# Altium footprint library Connector_Wire.PcbLib: 290 footprints (part 2 of 19)
Each footprint in its own frame and in the unit in brackets; x right, y up, seen from the top. Pads: shape width x height; smd on the part's side, far side on the other; paste and mask are expansions set on the pad; w line width, h text height; cw(c..) or ccw(c..) is an arc to the next point about the centre after c.
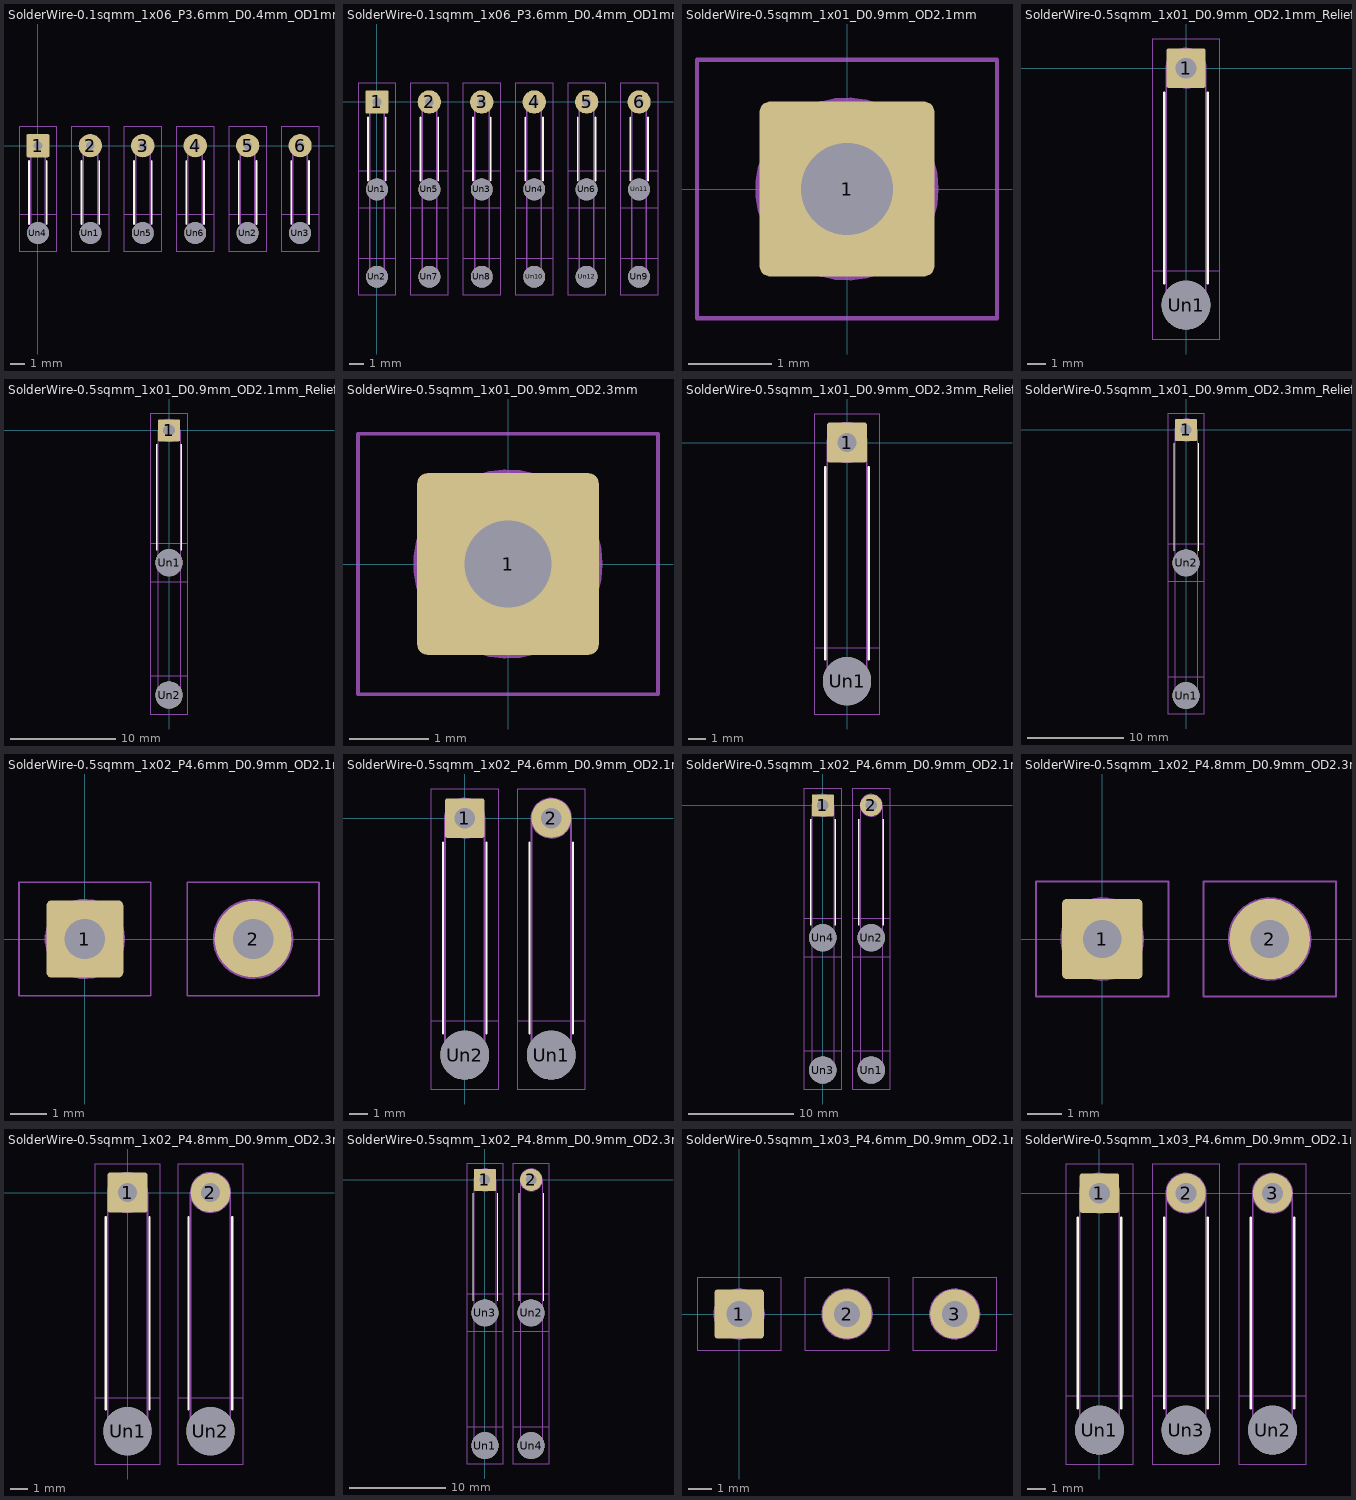
[diagram p1: the footprints below, top view; thin cyan lines are the x and y axes]

## SolderWire-0.1sqmm_1x06_P3.6mm_D0.4mm_OD1mm_Relief [mm]
pads (12):
  rrect16% 1.6x1.6 hole 0.6: 1(0,0)
  round 1.6 hole 0.6: 2(3.6,0) 3(7.2,0) 4(10.8,0) 5(14.4,0) 6(18,0)
  round 1.5 hole 1.5: Un1(3.6,-6) Un2(14.4,-6) Un3(18,-6) Un4(0,-6) Un5(7.2,-6) Un6(10.8,-6)
F.SilkS:
  lines w0.12: -0.61,-5.39 -0.61,-1.06 ; 0.61,-5.39 0.61,-1.06 ; 2.99,-5.39 2.99,-1.06 ; 4.21,-5.39 4.21,-1.06 ; 6.59,-5.39 6.59,-1.06 ; 7.81,-5.39 7.81,-1.06 ; 10.19,-5.39 10.19,-1.06 ; 11.41,-5.39 11.41,-1.06 ; 13.79,-5.39 13.79,-1.06 ; 15.01,-5.39 15.01,-1.06 ; 17.39,-5.39 17.39,-1.06 ; 18.61,-5.39 18.61,-1.06
B.CrtYd:
  lines w0.05: -1.3,-7.25 1.3,-7.25 1.3,-4.75 -1.3,-4.75 -1.3,-7.25 ; 2.3,-7.25 2.3,-4.75 4.9,-4.75 4.9,-7.25 2.3,-7.25 ; 5.9,-7.25 8.5,-7.25 8.5,-4.75 5.9,-4.75 5.9,-7.25 ; 9.5,-7.25 9.5,-4.75 12.1,-4.75 12.1,-7.25 9.5,-7.25 ; 13.1,-7.25 15.7,-7.25 15.7,-4.75 13.1,-4.75 13.1,-7.25 ; 16.7,-7.25 19.3,-7.25 19.3,-4.75 16.7,-4.75 16.7,-7.25
F.CrtYd:
  lines w0.05: -1.3,-7.25 1.3,-7.25 1.3,1.3 -1.3,1.3 -1.3,-7.25 ; 2.3,-7.25 4.9,-7.25 4.9,1.3 2.3,1.3 2.3,-7.25 ; 5.9,-7.25 5.9,1.3 8.5,1.3 8.5,-7.25 5.9,-7.25 ; 9.5,-7.25 9.5,1.3 12.1,1.3 12.1,-7.25 9.5,-7.25 ; 13.1,-7.25 15.7,-7.25 15.7,1.3 13.1,1.3 13.1,-7.25 ; 16.7,-7.25 19.3,-7.25 19.3,1.3 16.7,1.3 16.7,-7.25
F.Fab:
  circle w0.1: c0,-6 r0.5
  circle w0.1: c18,-6 r0.5
  circle w0.1: c10.8,0 r0.5
  circle w0.1: c7.2,0 r0.5
  circle w0.1: c3.6,-6 r0.5
  circle w0.1: c0,0 r0.5
  circle w0.1: c3.6,0 r0.5
  circle w0.1: c7.2,-6 r0.5
  circle w0.1: c18,0 r0.5
  circle w0.1: c14.4,-6 r0.5
  circle w0.1: c14.4,0 r0.5
  circle w0.1: c10.8,-6 r0.5
  lines w0.1: -0.5,-6 -0.5,0 ; 0.5,-6 0.5,0 ; 3.1,-6 3.1,0 ; 4.1,-6 4.1,0 ; 6.7,-6 6.7,0 ; 7.7,-6 7.7,0 ; 10.3,-6 10.3,0 ; 11.3,-6 11.3,0 ; 13.9,-6 13.9,0 ; 14.9,-6 14.9,0 ; 17.5,-6 17.5,0 ; 18.5,-6 18.5,0
  text "'.Designator'" at 9.672,-6.237 h0.8

## SolderWire-0.1sqmm_1x06_P3.6mm_D0.4mm_OD1mm_Relief2x [mm]
pads (18):
  rrect16% 1.6x1.6 hole 0.6: 1(0,0)
  round 1.6 hole 0.6: 2(3.6,0) 3(7.2,0) 4(10.8,0) 5(14.4,0) 6(18,0)
  round 1.5 hole 1.5: Un1(0,-6) Un2(0,-12) Un3(7.2,-6) Un4(10.8,-6) Un5(3.6,-6) Un6(14.4,-6) Un7(3.6,-12) Un8(7.2,-12) Un9(18,-12) Un10(10.8,-12) Un11(18,-6) Un12(14.4,-12)
F.SilkS:
  lines w0.12: -0.61,-5.39 -0.61,-1.06 ; 0.61,-5.39 0.61,-1.06 ; 2.99,-5.39 2.99,-1.06 ; 4.21,-5.39 4.21,-1.06 ; 6.59,-5.39 6.59,-1.06 ; 7.81,-5.39 7.81,-1.06 ; 10.19,-5.39 10.19,-1.06 ; 11.41,-5.39 11.41,-1.06 ; 13.79,-5.39 13.79,-1.06 ; 15.01,-5.39 15.01,-1.06 ; 17.39,-5.39 17.39,-1.06 ; 18.61,-5.39 18.61,-1.06
B.SilkS:
  lines w0.12: -0.61,-11.39 -0.61,-6.61 ; 0.61,-11.39 0.61,-6.61 ; 2.99,-11.39 2.99,-6.61 ; 4.21,-11.39 4.21,-6.61 ; 6.59,-11.39 6.59,-6.61 ; 7.81,-11.39 7.81,-6.61 ; 10.19,-11.39 10.19,-6.61 ; 11.41,-11.39 11.41,-6.61 ; 13.79,-11.39 13.79,-6.61 ; 15.01,-11.39 15.01,-6.61 ; 17.39,-11.39 17.39,-6.61 ; 18.61,-11.39 18.61,-6.61
B.CrtYd:
  lines w0.05: -1.3,-13.25 1.3,-13.25 1.3,-4.75 -1.3,-4.75 -1.3,-13.25 ; 2.3,-13.25 4.9,-13.25 4.9,-4.75 2.3,-4.75 2.3,-13.25 ; 5.9,-13.25 8.5,-13.25 8.5,-4.75 5.9,-4.75 5.9,-13.25 ; 9.5,-13.25 12.1,-13.25 12.1,-4.75 9.5,-4.75 9.5,-13.25 ; 13.1,-13.25 15.7,-13.25 15.7,-4.75 13.1,-4.75 13.1,-13.25 ; 16.7,-13.25 16.7,-4.75 19.3,-4.75 19.3,-13.25 16.7,-13.25
F.CrtYd:
  lines w0.05: -1.3,-13.25 -1.3,-10.75 1.3,-10.75 1.3,-13.25 -1.3,-13.25 ; -1.3,-7.25 -1.3,1.3 1.3,1.3 1.3,-7.25 -1.3,-7.25 ; 2.3,-13.25 4.9,-13.25 4.9,-10.75 2.3,-10.75 2.3,-13.25 ; 2.3,-7.25 2.3,1.3 4.9,1.3 4.9,-7.25 2.3,-7.25 ; 5.9,-13.25 8.5,-13.25 8.5,-10.75 5.9,-10.75 5.9,-13.25 ; 5.9,-7.25 5.9,1.3 8.5,1.3 8.5,-7.25 5.9,-7.25 ; 9.5,-13.25 9.5,-10.75 12.1,-10.75 12.1,-13.25 9.5,-13.25 ; 9.5,-7.25 9.5,1.3 12.1,1.3 12.1,-7.25 9.5,-7.25 ; 13.1,-13.25 13.1,-10.75 15.7,-10.75 15.7,-13.25 13.1,-13.25 ; 13.1,-7.25 13.1,1.3 15.7,1.3 15.7,-7.25 13.1,-7.25 ; 16.7,-13.25 19.3,-13.25 19.3,-10.75 16.7,-10.75 16.7,-13.25 ; 16.7,-7.25 19.3,-7.25 19.3,1.3 16.7,1.3 16.7,-7.25
B.Fab:
  circle w0.1: c10.8,-12 r0.5
  circle w0.1: c0,-12 r0.5
  circle w0.1: c14.4,-6 r0.5
  circle w0.1: c0,-6 r0.5
  circle w0.1: c10.8,-6 r0.5
  circle w0.1: c7.2,-12 r0.5
  circle w0.1: c3.6,-12 r0.5
  circle w0.1: c7.2,-6 r0.5
  circle w0.1: c18,-6 r0.5
  circle w0.1: c3.6,-6 r0.5
  circle w0.1: c14.4,-12 r0.5
  circle w0.1: c18,-12 r0.5
  lines w0.1: -0.5,-12 -0.5,-6 ; 0.5,-12 0.5,-6 ; 3.1,-12 3.1,-6 ; 4.1,-12 4.1,-6 ; 6.7,-12 6.7,-6 ; 7.7,-12 7.7,-6 ; 10.3,-12 10.3,-6 ; 11.3,-12 11.3,-6 ; 13.9,-12 13.9,-6 ; 14.9,-12 14.9,-6 ; 17.5,-12 17.5,-6 ; 18.5,-12 18.5,-6
F.Fab:
  circle w0.1: c14.4,-12 r0.5
  circle w0.1: c18,-6 r0.5
  circle w0.1: c10.8,0 r0.5
  circle w0.1: c18,-12 r0.5
  circle w0.1: c7.2,-6 r0.5
  circle w0.1: c14.4,-6 r0.5
  circle w0.1: c7.2,0 r0.5
  circle w0.1: c3.6,-6 r0.5
  circle w0.1: c3.6,-12 r0.5
  circle w0.1: c10.8,-6 r0.5
  circle w0.1: c18,0 r0.5
  circle w0.1: c0,-12 r0.5
  circle w0.1: c7.2,-12 r0.5
  circle w0.1: c14.4,0 r0.5
  circle w0.1: c0,-6 r0.5
  circle w0.1: c3.6,0 r0.5
  circle w0.1: c10.8,-12 r0.5
  circle w0.1: c0,0 r0.5
  lines w0.1: -0.5,-6 -0.5,0 ; 0.5,-6 0.5,0 ; 3.1,-6 3.1,0 ; 4.1,-6 4.1,0 ; 6.7,-6 6.7,0 ; 7.7,-6 7.7,0 ; 10.3,-6 10.3,0 ; 11.3,-6 11.3,0 ; 13.9,-6 13.9,0 ; 14.9,-6 14.9,0 ; 17.5,-6 17.5,0 ; 18.5,-6 18.5,0
  text "'.Designator'" at 9.672,-6.237 h0.8

## SolderWire-0.5sqmm_1x01_D0.9mm_OD2.1mm [mm]
pads (1):
  rrect12% 2.1x2.1 hole 1.1: 1(0,0)
F.CrtYd:
  lines w0.05: -1.8,-1.55 -1.8,1.55 1.8,1.55 1.8,-1.55 -1.8,-1.55
F.Fab:
  circle w0.1: c0,0 r1.05
  text "'.Designator'" at -2.106,-0.439 h0.52

## SolderWire-0.5sqmm_1x01_D0.9mm_OD2.1mm_Relief [mm]
pads (2):
  rrect12% 2.1x2.1 hole 1.1: 1(0,0)
  round 2.6 hole 2.6: Un1(0,-12.6)
F.SilkS:
  lines w0.12: -1.16,-11.44 -1.16,-1.31 ; 1.16,-11.44 1.16,-1.31
B.CrtYd:
  lines w0.05: -1.8,-14.4 -1.8,-10.8 1.8,-10.8 1.8,-14.4 -1.8,-14.4
F.CrtYd:
  lines w0.05: -1.8,-14.4 -1.8,1.55 1.8,1.55 1.8,-14.4 -1.8,-14.4
F.Fab:
  circle w0.1: c0,0 r1.05
  circle w0.1: c0,-12.6 r1.05
  lines w0.1: -1.05,-12.6 -1.05,0 ; 1.05,-12.6 1.05,0
  text "'.Designator'" at 0.84,-10.347 h1

## SolderWire-0.5sqmm_1x01_D0.9mm_OD2.1mm_Relief2x [mm]
pads (3):
  rrect12% 2.1x2.1 hole 1.1: 1(0,0)
  round 2.6 hole 2.6: Un1(0,-12.6) Un2(0,-25.2)
F.SilkS:
  lines w0.12: -1.16,-11.44 -1.16,-1.31 ; 1.16,-11.44 1.16,-1.31
B.SilkS:
  lines w0.12: -1.16,-24.04 -1.16,-13.76 ; 1.16,-24.04 1.16,-13.76
B.CrtYd:
  lines w0.05: -1.8,-27 -1.8,-10.8 1.8,-10.8 1.8,-27 -1.8,-27
F.CrtYd:
  lines w0.05: -1.8,-27 1.8,-27 1.8,-23.4 -1.8,-23.4 -1.8,-27 ; -1.8,-14.4 1.8,-14.4 1.8,1.55 -1.8,1.55 -1.8,-14.4
B.Fab:
  circle w0.1: c0,-12.6 r1.05
  circle w0.1: c0,-25.2 r1.05
  lines w0.1: -1.05,-25.2 -1.05,-12.6 ; 1.05,-25.2 1.05,-12.6
F.Fab:
  circle w0.1: c0,-12.6 r1.05
  circle w0.1: c0,0 r1.05
  circle w0.1: c0,-25.2 r1.05
  lines w0.1: -1.05,-12.6 -1.05,0 ; 1.05,-12.6 1.05,0
  text "'.Designator'" at 0.84,-10.347 h1

## SolderWire-0.5sqmm_1x01_D0.9mm_OD2.3mm [mm]
pads (1):
  rrect11% 2.3x2.3 hole 1.1: 1(0,0)
F.CrtYd:
  lines w0.05: -1.9,-1.65 1.9,-1.65 1.9,1.65 -1.9,1.65 -1.9,-1.65
F.Fab:
  circle w0.1: c0,0 r1.15
  text "'.Designator'" at -2.311,-0.483 h0.57

## SolderWire-0.5sqmm_1x01_D0.9mm_OD2.3mm_Relief [mm]
pads (2):
  rrect11% 2.3x2.3 hole 1.1: 1(0,0)
  round 2.8 hole 2.8: Un1(0,-13.8)
F.SilkS:
  lines w0.12: -1.26,-12.54 -1.26,-1.41 ; 1.26,-12.54 1.26,-1.41
B.CrtYd:
  lines w0.05: -1.9,-15.7 -1.9,-11.9 1.9,-11.9 1.9,-15.7 -1.9,-15.7
F.CrtYd:
  lines w0.05: -1.9,-15.7 1.9,-15.7 1.9,1.65 -1.9,1.65 -1.9,-15.7
F.Fab:
  circle w0.1: c0,0 r1.15
  circle w0.1: c0,-13.8 r1.15
  lines w0.1: -1.15,-13.8 -1.15,0 ; 1.15,-13.8 1.15,0
  text "'.Designator'" at 0.84,-10.947 h1

## SolderWire-0.5sqmm_1x01_D0.9mm_OD2.3mm_Relief2x [mm]
pads (3):
  rrect11% 2.3x2.3 hole 1.1: 1(0,0)
  round 2.8 hole 2.8: Un1(0,-27.6) Un2(0,-13.8)
F.SilkS:
  lines w0.12: -1.26,-12.54 -1.26,-1.41 ; 1.26,-12.54 1.26,-1.41
B.SilkS:
  lines w0.12: -1.26,-26.34 -1.26,-15.06 ; 1.26,-26.34 1.26,-15.06
B.CrtYd:
  lines w0.05: -1.9,-29.5 -1.9,-11.9 1.9,-11.9 1.9,-29.5 -1.9,-29.5
F.CrtYd:
  lines w0.05: -1.9,-29.5 -1.9,-25.7 1.9,-25.7 1.9,-29.5 -1.9,-29.5 ; -1.9,-15.7 1.9,-15.7 1.9,1.65 -1.9,1.65 -1.9,-15.7
B.Fab:
  circle w0.1: c0,-27.6 r1.15
  circle w0.1: c0,-13.8 r1.15
  lines w0.1: -1.15,-27.6 -1.15,-13.8 ; 1.15,-27.6 1.15,-13.8
F.Fab:
  circle w0.1: c0,-13.8 r1.15
  circle w0.1: c0,0 r1.15
  circle w0.1: c0,-27.6 r1.15
  lines w0.1: -1.15,-13.8 -1.15,0 ; 1.15,-13.8 1.15,0
  text "'.Designator'" at 0.84,-10.947 h1

## SolderWire-0.5sqmm_1x02_P4.6mm_D0.9mm_OD2.1mm [mm]
pads (2):
  rrect12% 2.1x2.1 hole 1.1: 1(0,0)
  round 2.1 hole 1.1: 2(4.6,0)
F.CrtYd:
  lines w0.05: -1.8,-1.55 -1.8,1.55 1.8,1.55 1.8,-1.55 -1.8,-1.55 ; 2.8,-1.55 2.8,1.55 6.4,1.55 6.4,-1.55 2.8,-1.55
F.Fab:
  circle w0.1: c4.6,0 r1.05
  circle w0.1: c0,0 r1.05
  text "'.Designator'" at 2.958,-3.159 h0.78

## SolderWire-0.5sqmm_1x02_P4.6mm_D0.9mm_OD2.1mm_Relief [mm]
pads (4):
  rrect12% 2.1x2.1 hole 1.1: 1(0,0)
  round 2.1 hole 1.1: 2(4.6,0)
  round 2.6 hole 2.6: Un1(4.6,-12.6) Un2(0,-12.6)
F.SilkS:
  lines w0.12: -1.16,-11.44 -1.16,-1.31 ; 1.16,-11.44 1.16,-1.31 ; 3.44,-11.44 3.44,-1.31 ; 5.76,-11.44 5.76,-1.31
B.CrtYd:
  lines w0.05: -1.8,-14.4 1.8,-14.4 1.8,-10.8 -1.8,-10.8 -1.8,-14.4 ; 2.8,-14.4 6.4,-14.4 6.4,-10.8 2.8,-10.8 2.8,-14.4
F.CrtYd:
  lines w0.05: -1.8,-14.4 -1.8,1.55 1.8,1.55 1.8,-14.4 -1.8,-14.4 ; 2.8,-14.4 2.8,1.55 6.4,1.55 6.4,-14.4 2.8,-14.4
F.Fab:
  circle w0.1: c0,-12.6 r1.05
  circle w0.1: c0,0 r1.05
  circle w0.1: c4.6,-12.6 r1.05
  circle w0.1: c4.6,0 r1.05
  lines w0.1: -1.05,-12.6 -1.05,0 ; 1.05,-12.6 1.05,0 ; 3.55,-12.6 3.55,0 ; 5.65,-12.6 5.65,0
  text "'.Designator'" at 3.14,-10.347 h1

## SolderWire-0.5sqmm_1x02_P4.6mm_D0.9mm_OD2.1mm_Relief2x [mm]
pads (6):
  rrect12% 2.1x2.1 hole 1.1: 1(0,0)
  round 2.1 hole 1.1: 2(4.6,0)
  round 2.6 hole 2.6: Un1(4.6,-25.2) Un2(4.6,-12.6) Un3(0,-25.2) Un4(0,-12.6)
F.SilkS:
  lines w0.12: -1.16,-11.44 -1.16,-1.31 ; 1.16,-11.44 1.16,-1.31 ; 3.44,-11.44 3.44,-1.31 ; 5.76,-11.44 5.76,-1.31
B.SilkS:
  lines w0.12: -1.16,-24.04 -1.16,-13.76 ; 1.16,-24.04 1.16,-13.76 ; 3.44,-24.04 3.44,-13.76 ; 5.76,-24.04 5.76,-13.76
B.CrtYd:
  lines w0.05: -1.8,-27 1.8,-27 1.8,-10.8 -1.8,-10.8 -1.8,-27 ; 2.8,-27 2.8,-10.8 6.4,-10.8 6.4,-27 2.8,-27
F.CrtYd:
  lines w0.05: -1.8,-27 1.8,-27 1.8,-23.4 -1.8,-23.4 -1.8,-27 ; -1.8,-14.4 1.8,-14.4 1.8,1.55 -1.8,1.55 -1.8,-14.4 ; 2.8,-27 2.8,-23.4 6.4,-23.4 6.4,-27 2.8,-27 ; 2.8,-14.4 6.4,-14.4 6.4,1.55 2.8,1.55 2.8,-14.4
B.Fab:
  circle w0.1: c0,-25.2 r1.05
  circle w0.1: c4.6,-12.6 r1.05
  circle w0.1: c0,-12.6 r1.05
  circle w0.1: c4.6,-25.2 r1.05
  lines w0.1: -1.05,-25.2 -1.05,-12.6 ; 1.05,-25.2 1.05,-12.6 ; 3.55,-25.2 3.55,-12.6 ; 5.65,-25.2 5.65,-12.6
F.Fab:
  circle w0.1: c4.6,-25.2 r1.05
  circle w0.1: c0,-25.2 r1.05
  circle w0.1: c0,0 r1.05
  circle w0.1: c0,-12.6 r1.05
  circle w0.1: c4.6,-12.6 r1.05
  circle w0.1: c4.6,0 r1.05
  lines w0.1: -1.05,-12.6 -1.05,0 ; 1.05,-12.6 1.05,0 ; 3.55,-12.6 3.55,0 ; 5.65,-12.6 5.65,0
  text "'.Designator'" at 3.14,-10.347 h1

## SolderWire-0.5sqmm_1x02_P4.8mm_D0.9mm_OD2.3mm [mm]
pads (2):
  rrect11% 2.3x2.3 hole 1.1: 1(0,0)
  round 2.3 hole 1.1: 2(4.8,0)
F.CrtYd:
  lines w0.05: -1.9,-1.65 -1.9,1.65 1.9,1.65 1.9,-1.65 -1.9,-1.65 ; 2.9,-1.65 2.9,1.65 6.7,1.65 6.7,-1.65 2.9,-1.65
F.Fab:
  circle w0.1: c0,0 r1.15
  circle w0.1: c4.8,0 r1.15
  text "'.Designator'" at 3.086,-3.315 h0.82

## SolderWire-0.5sqmm_1x02_P4.8mm_D0.9mm_OD2.3mm_Relief [mm]
pads (4):
  rrect11% 2.3x2.3 hole 1.1: 1(0,0)
  round 2.3 hole 1.1: 2(4.8,0)
  round 2.8 hole 2.8: Un1(0,-13.8) Un2(4.8,-13.8)
F.SilkS:
  lines w0.12: -1.26,-12.54 -1.26,-1.41 ; 1.26,-12.54 1.26,-1.41 ; 3.54,-12.54 3.54,-1.41 ; 6.06,-12.54 6.06,-1.41
B.CrtYd:
  lines w0.05: -1.9,-15.7 -1.9,-11.9 1.9,-11.9 1.9,-15.7 -1.9,-15.7 ; 2.9,-15.7 6.7,-15.7 6.7,-11.9 2.9,-11.9 2.9,-15.7
F.CrtYd:
  lines w0.05: -1.9,-15.7 -1.9,1.65 1.9,1.65 1.9,-15.7 -1.9,-15.7 ; 2.9,-15.7 2.9,1.65 6.7,1.65 6.7,-15.7 2.9,-15.7
F.Fab:
  circle w0.1: c0,-13.8 r1.15
  circle w0.1: c4.8,-13.8 r1.15
  circle w0.1: c4.8,0 r1.15
  circle w0.1: c0,0 r1.15
  lines w0.1: -1.15,-13.8 -1.15,0 ; 1.15,-13.8 1.15,0 ; 3.65,-13.8 3.65,0 ; 5.95,-13.8 5.95,0
  text "'.Designator'" at 3.24,-10.947 h1

## SolderWire-0.5sqmm_1x02_P4.8mm_D0.9mm_OD2.3mm_Relief2x [mm]
pads (6):
  rrect11% 2.3x2.3 hole 1.1: 1(0,0)
  round 2.3 hole 1.1: 2(4.8,0)
  round 2.8 hole 2.8: Un1(0,-27.6) Un2(4.8,-13.8) Un3(0,-13.8) Un4(4.8,-27.6)
F.SilkS:
  lines w0.12: -1.26,-12.54 -1.26,-1.41 ; 1.26,-12.54 1.26,-1.41 ; 3.54,-12.54 3.54,-1.41 ; 6.06,-12.54 6.06,-1.41
B.SilkS:
  lines w0.12: -1.26,-26.34 -1.26,-15.06 ; 1.26,-26.34 1.26,-15.06 ; 3.54,-26.34 3.54,-15.06 ; 6.06,-26.34 6.06,-15.06
B.CrtYd:
  lines w0.05: -1.9,-29.5 1.9,-29.5 1.9,-11.9 -1.9,-11.9 -1.9,-29.5 ; 2.9,-29.5 6.7,-29.5 6.7,-11.9 2.9,-11.9 2.9,-29.5
F.CrtYd:
  lines w0.05: -1.9,-29.5 1.9,-29.5 1.9,-25.7 -1.9,-25.7 -1.9,-29.5 ; -1.9,-15.7 -1.9,1.65 1.9,1.65 1.9,-15.7 -1.9,-15.7 ; 2.9,-29.5 6.7,-29.5 6.7,-25.7 2.9,-25.7 2.9,-29.5 ; 2.9,-15.7 2.9,1.65 6.7,1.65 6.7,-15.7 2.9,-15.7
B.Fab:
  circle w0.1: c4.8,-27.6 r1.15
  circle w0.1: c0,-27.6 r1.15
  circle w0.1: c0,-13.8 r1.15
  circle w0.1: c4.8,-13.8 r1.15
  lines w0.1: -1.15,-27.6 -1.15,-13.8 ; 1.15,-27.6 1.15,-13.8 ; 3.65,-27.6 3.65,-13.8 ; 5.95,-27.6 5.95,-13.8
F.Fab:
  circle w0.1: c4.8,-27.6 r1.15
  circle w0.1: c0,-13.8 r1.15
  circle w0.1: c0,-27.6 r1.15
  circle w0.1: c0,0 r1.15
  circle w0.1: c4.8,0 r1.15
  circle w0.1: c4.8,-13.8 r1.15
  lines w0.1: -1.15,-13.8 -1.15,0 ; 1.15,-13.8 1.15,0 ; 3.65,-13.8 3.65,0 ; 5.95,-13.8 5.95,0
  text "'.Designator'" at 3.24,-10.947 h1

## SolderWire-0.5sqmm_1x03_P4.6mm_D0.9mm_OD2.1mm [mm]
pads (3):
  rrect12% 2.1x2.1 hole 1.1: 1(0,0)
  round 2.1 hole 1.1: 2(4.6,0) 3(9.2,0)
F.CrtYd:
  lines w0.05: -1.8,-1.55 1.8,-1.55 1.8,1.55 -1.8,1.55 -1.8,-1.55 ; 2.8,-1.55 2.8,1.55 6.4,1.55 6.4,-1.55 2.8,-1.55 ; 7.4,-1.55 11,-1.55 11,1.55 7.4,1.55 7.4,-1.55
F.Fab:
  circle w0.1: c4.6,0 r1.05
  circle w0.1: c0,0 r1.05
  circle w0.1: c9.2,0 r1.05
  text "'.Designator'" at 5.039,-2.106 h0.52

## SolderWire-0.5sqmm_1x03_P4.6mm_D0.9mm_OD2.1mm_Relief [mm]
pads (6):
  rrect12% 2.1x2.1 hole 1.1: 1(0,0)
  round 2.1 hole 1.1: 2(4.6,0) 3(9.2,0)
  round 2.6 hole 2.6: Un1(0,-12.6) Un2(9.2,-12.6) Un3(4.6,-12.6)
F.SilkS:
  lines w0.12: -1.16,-11.44 -1.16,-1.31 ; 1.16,-11.44 1.16,-1.31 ; 3.44,-11.44 3.44,-1.31 ; 5.76,-11.44 5.76,-1.31 ; 8.04,-11.44 8.04,-1.31 ; 10.36,-11.44 10.36,-1.31
B.CrtYd:
  lines w0.05: -1.8,-14.4 -1.8,-10.8 1.8,-10.8 1.8,-14.4 -1.8,-14.4 ; 2.8,-14.4 6.4,-14.4 6.4,-10.8 2.8,-10.8 2.8,-14.4 ; 7.4,-14.4 7.4,-10.8 11,-10.8 11,-14.4 7.4,-14.4
F.CrtYd:
  lines w0.05: -1.8,-14.4 1.8,-14.4 1.8,1.55 -1.8,1.55 -1.8,-14.4 ; 2.8,-14.4 6.4,-14.4 6.4,1.55 2.8,1.55 2.8,-14.4 ; 7.4,-14.4 11,-14.4 11,1.55 7.4,1.55 7.4,-14.4
F.Fab:
  circle w0.1: c4.6,0 r1.05
  circle w0.1: c0,0 r1.05
  circle w0.1: c9.2,-12.6 r1.05
  circle w0.1: c4.6,-12.6 r1.05
  circle w0.1: c9.2,0 r1.05
  circle w0.1: c0,-12.6 r1.05
  lines w0.1: -1.05,-12.6 -1.05,0 ; 1.05,-12.6 1.05,0 ; 3.55,-12.6 3.55,0 ; 5.65,-12.6 5.65,0 ; 8.15,-12.6 8.15,0 ; 10.25,-12.6 10.25,0
  text "'.Designator'" at 5.44,-10.347 h1